# Altium schematic symbol library CAP,Tant,100uF,10VDC,1411.Schlib: 1 symbol
Pins are listed as number, name and electrical type; pins without a type are passive.

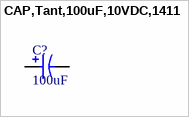
[diagram p0: symbol CAP,Tant,100uF,10VDC,1411]

## CAP,Tant,100uF,10VDC,1411
designator C?, comment 100uF
100 µF Molded Tantalum Capacitors 10 V 1411 (3528 Metric), 1210 1.4Ohm
pins: 1, 2